# Altium footprint library PcbLib.PcbLib: 2 footprints
Each footprint in its own frame and in the unit in brackets; x right, y up, seen from the top. Pads: shape width x height; smd on the part's side, far side on the other; paste and mask are expansions set on the pad; w line width, h text height; cw(c..) or ccw(c..) is an arc to the next point about the centre after c.
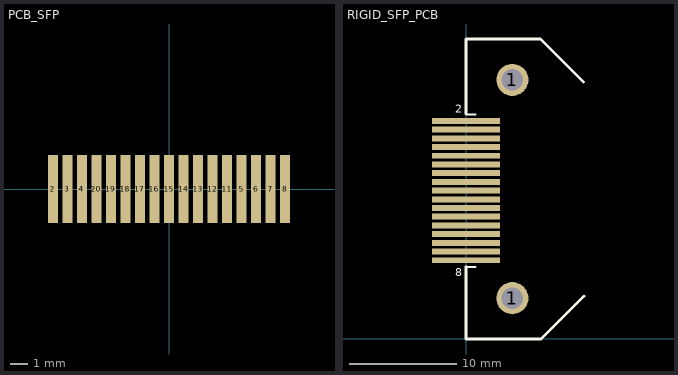
[diagram p0: the footprints below, top view; thin cyan lines are the x and y axes]

## PCB_SFP [mil]
pads (17):
  rect 22x150 smd: 2(-256,0) 3(-224,0) 4(-192,0) 5(160,0) 6(192,0) 7(224,0) 8(256,0) 11(128,0) 12(96,0) 13(64,0) 14(32,0) 15(0,0) 16(-32,0) 17(-64,0) 18(-96,0) 19(-128,0) 20(-160,0)

## RIGID_SFP_PCB [mil]
pads (19):
  round 118.11 hole 78.74: 1(170,150) 1(170,952.36)
  rect 250x22 smd: 2(0,801.37) 3(0,769.37) 4(0,737.37) 5(0,385.37) 6(0,353.37) 7(0,321.37) 8(0,289.37) 11(0,417.37) 12(0,449.37) 13(0,481.37) 14(0,513.37) 15(0,545.37) 16(0,577.37) 17(0,609.37) 18(0,641.37) 19(0,673.37) 20(0,705.37)
Top Overlay:
  lines w7.87: 0,265 35,265 ; 0,826.77 1.77,825 35,825
  lines w10: 0,265 0,0 275.59,0 433.07,157.48 ; 0,826.77 0,1102.36 273.78,1102.36 431.44,944.7
  text "2" at -40,831.37 h30
  text "8" at -40,231.37 h30